# EAGLE library part SD-SHIELD (library sd-mmc)
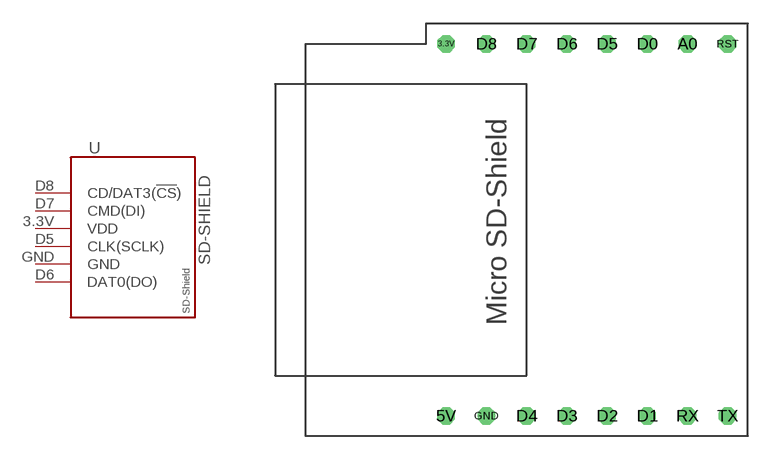
[diagram p4: symbol with the pads of SD_SHIELD; footprint SD_SHIELD]

Designator prefix -

## SD-SHIELD  [SD_SHIELD]
3.3V  VDD  pwr
D5  CLK(SCLK)  in
D6  DAT0(DO)
D7  CMD(DI)
D8  CD/DAT3(!CS!)
GND  GND  pwr

## Footprint SD_SHIELD (pad centres in mm)
drill 0.6 octagon: 3.3V 8.89,24.765; 5V 8.89,1.27; A0 24.13,24.765; D0 21.59,24.765; D1 21.59,1.27; D2 19.05,1.27; D3 16.51,1.27; D4 13.97,1.27; D5 19.05,24.765; D6 16.51,24.765; D7 13.97,24.765; D8 11.43,24.765; GND 11.43,1.27; RST 26.67,24.765; RX 24.13,1.27; TX 26.67,1.27